# EAGLE library part ARDUINO-NANO-V3 (library Development Boards)
Specifications: - Microcontroller Atmel ATmega168 or ATmega328 - Operating Voltage (logic level) 5 V - Input Voltage (recommended) 7-12 V - Input Voltage (limits) 6-20 V - Digital I/O Pins 14 (of which 6 provide PWM output) Analog Input Pins 8 - DC Current per I/O Pin 40 mA - Flash Memory 16 KB (ATmega168) or 32 KB (ATmega328) of which 2 KB used by bootloader - SRAM 1 KB (ATmega168) or 2 KB (ATmega328) - EEPROM 512 bytes (ATmega168) or 1 KB - (ATmega328) Clock Speed 16 MHz - Dimensions 0.73" x 1.70" For More details on Arduino nano visit <https://store.arduino.cc/usa/arduino-nano> Datasheet <https://www.mouser.in/datasheet/2/595/Arduino-ArduinoBoardNano-1214669.pdf>
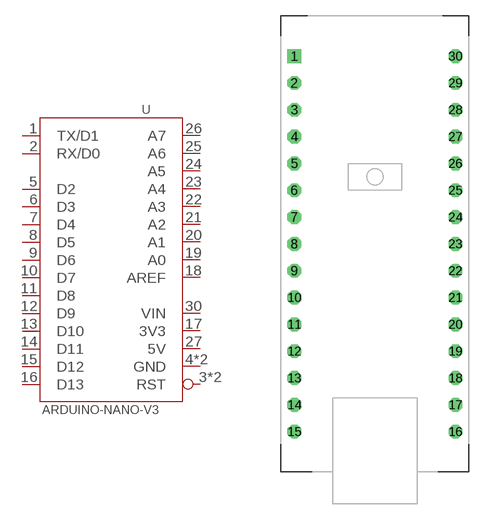
[diagram p7: symbol with the pads of ARDUINO_NANO_3_WITHOUT_ICSP; footprint ARDUINO_NANO_3_WITHOUT_ICSP]

Designator prefix U

## ARDUINO-NANO-V3 (DESCRIPTION: Development Board, Arduino Nano, ATmega328 MCU, 14 3.3V I/O, 6 PWM Outputs, USB Mini B; MANUFACTURER_NAME: ARDUINO; MANUFACTURER_PART_NUMBER: A000005; PACKAGE_CASE: DIP-30; PRODUCT_CATOGORY: Development Boards & Kits - AVR; TECHNOLOGY: THT)  [ARDUINO_NANO_3_WITHOUT_ICSP]
1  TX/D1
2  RX/D0
3  RST
4  GND  pwr
5  D2
6  D3
7  D4
8  D5
9  D6
10  D7
11  D8
12  D9
13  D10
14  D11
15  D12
16  D13
17  3V3  pwr
18  AREF
19  A0
20  A1
21  A2
22  A3
23  A4
24  A5
25  A6
26  A7
27  5V  pwr
28  RST
29  GND  pwr
30  VIN  pwr

## Footprint ARDUINO_NANO_3_WITHOUT_ICSP (pad centres in mm)
drill 0.8 square: 1 -7.62,17.78
drill 0.8 octagon: 2 -7.62,15.24; 3 -7.62,12.7; 4 -7.62,10.16; 5 -7.62,7.62; 6 -7.62,5.08; 7 -7.62,2.54; 8 -7.62,0; 9 -7.62,-2.54; 10 -7.62,-5.08; 11 -7.62,-7.62; 12 -7.62,-10.16; 13 -7.62,-12.7; 14 -7.62,-15.24; 15 -7.62,-17.78; 16 7.62,-17.78; 17 7.62,-15.24; 18 7.62,-12.7; 19 7.62,-10.16; 20 7.62,-7.62; 21 7.62,-5.08; 22 7.62,-2.54; 23 7.62,0; 24 7.62,2.54; 25 7.62,5.08; 26 7.62,7.62; 27 7.62,10.16; 28 7.62,12.7; 29 7.62,15.24; 30 7.62,17.78